# EAGLE library part CHERRY-MX-LED (library Jordi)
Cherry MX series keyswitch with LED. Also compatible with Alps/Matias switches.
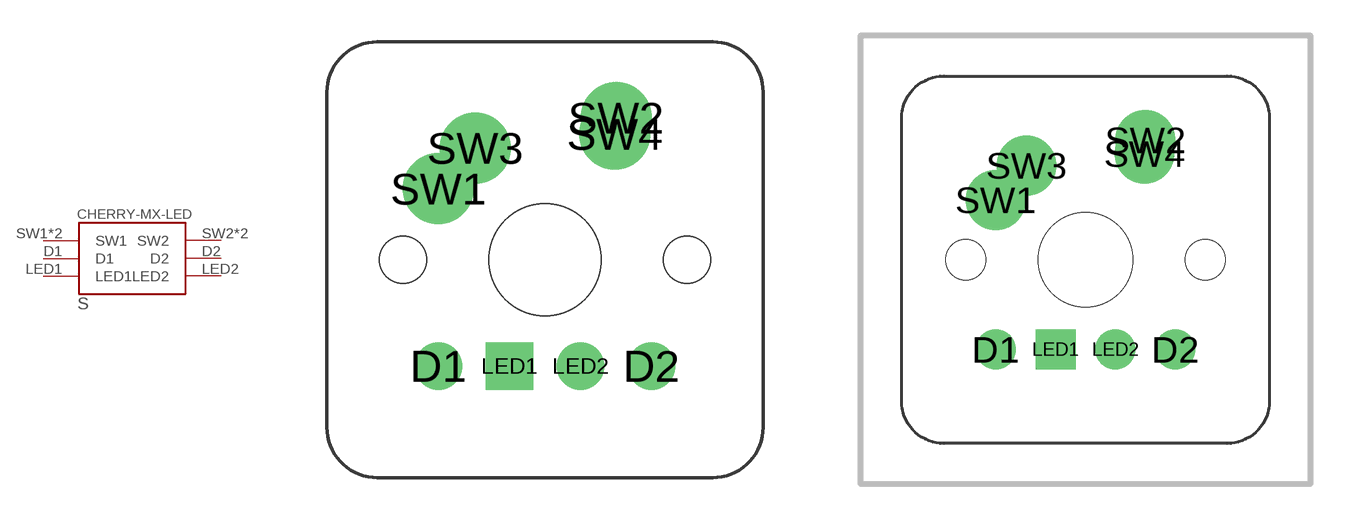
[diagram p48: symbol with the pads of CHERRY-MX-LED; footprints CHERRY-MX-LED, CHERRY-MX-LED-1X1]

Designator prefix S

## CHERRY-MX-LEDBASE  [CHERRY-MX-LED]
D1  D1
D2  D2
LED1  LED1
LED2  LED2
SW1  SW1
SW2  SW2
SW3  SW1
SW4  SW2

## CHERRY-MX-LED1X1  [CHERRY-MX-LED-1X1]
Pads as for CHERRY-MX-LED

## CHERRY-MX-LED1X1.25  [CHERRY-MX-LED-1X1.25]
Pads as for CHERRY-MX-LED

## CHERRY-MX-LED1X1.5  [CHERRY-MX-LED-1X1.5]
Pads as for CHERRY-MX-LED

## CHERRY-MX-LED1X1.75  [CHERRY-MX-LED-1X1.75]
Pads as for CHERRY-MX-LED

## CHERRY-MX-LED1X2  [CHERRY-MX-LED-1X2]
Pads as for CHERRY-MX-LED

## CHERRY-MX-LED1X2.25  [CHERRY-MX-LED-1X2.25]
Pads as for CHERRY-MX-LED

## CHERRY-MX-LED1X2.75  [CHERRY-MX-LED-1X2.75]
Pads as for CHERRY-MX-LED

## CHERRY-MX-LED1X3  [CHERRY-MX-LED-1X3]
Pads as for CHERRY-MX-LED

## Footprint CHERRY-MX-LED (pad centres in mm)
Cherry MX series keyswitch footprint with additional holes for an LED
drill 1 pad 1.7: D1 -3.81,-3.81; D2 3.81,-3.81; LED2 1.27,-3.81
drill 1 pad 1.7 square: LED1 -1.27,-3.81
drill 1.5 pad 2.54: SW1 -3.81,2.54; SW2 2.54,5.08; SW3 -2.5,4; SW4 2.5,4.5
hole 4 at 0,0
hole 1.7 at -5.08,0
hole 1.7 at 5.08,0

## Footprint CHERRY-MX-LED-1X1 (pad centres in mm)
drill 1 pad 1.7: D1 -3.81,-3.81; D2 3.81,-3.81; LED2 1.27,-3.81
drill 1 pad 1.7 square: LED1 -1.27,-3.81
drill 1.5 pad 2.54: SW1 -3.81,2.54; SW2 2.54,5.08; SW3 -2.5,4; SW4 2.5,4.5
hole 4 at 0,0
hole 1.7 at -5.08,0
hole 1.7 at 5.08,0

## Footprint CHERRY-MX-LED-1X1.25 (pad centres in mm)
drill 1 pad 1.7: D1 -3.81,-3.81; D2 3.81,-3.81; LED2 1.27,-3.81
drill 1 pad 1.7 square: LED1 -1.27,-3.81
drill 1.5 pad 2.54: SW1 -3.81,2.54; SW2 2.54,5.08; SW3 -2.5,4; SW4 2.5,4.5
hole 4 at 0,0
hole 1.7 at -5.08,0
hole 1.7 at 5.08,0

## Footprint CHERRY-MX-LED-1X1.5 (pad centres in mm)
drill 1 pad 1.7: D1 -3.81,-3.81; D2 3.81,-3.81; LED2 1.27,-3.81
drill 1 pad 1.7 square: LED1 -1.27,-3.81
drill 1.5 pad 2.54: SW1 -3.81,2.54; SW2 2.54,5.08; SW3 -2.5,4; SW4 2.5,4.5
hole 4 at 0,0
hole 1.7 at -5.08,0
hole 1.7 at 5.08,0

## Footprint CHERRY-MX-LED-1X1.75 (pad centres in mm)
drill 1 pad 1.7: D1 -3.81,-3.81; D2 3.81,-3.81; LED2 1.27,-3.81
drill 1 pad 1.7 square: LED1 -1.27,-3.81
drill 1.5 pad 2.54: SW1 -3.81,2.54; SW2 2.54,5.08; SW3 -2.5,4; SW4 2.5,4.5
hole 4 at 0,0
hole 1.7 at -5.08,0
hole 1.7 at 5.08,0

## Footprint CHERRY-MX-LED-1X2 (pad centres in mm)
drill 1 pad 1.7: D1 -3.81,-3.81; D2 3.81,-3.81; LED2 1.27,-3.81
drill 1 pad 1.7 square: LED1 -1.27,-3.81
drill 1.5 pad 2.54: SW1 -3.81,2.54; SW2 2.54,5.08; SW3 -2.5,4; SW4 2.5,4.5
hole 4 at 0,0
hole 1.7 at -5.08,0
hole 1.7 at 5.08,0
hole 3.05 at 11.9,7
hole 3.05 at -11.9,7
hole 4 at -11.9,-8.24
hole 4 at 11.9,-8.24

## Footprint CHERRY-MX-LED-1X2.25 (pad centres in mm)
drill 1 pad 1.7: D1 -3.81,-3.81; D2 3.81,-3.81; LED2 1.27,-3.81
drill 1 pad 1.7 square: LED1 -1.27,-3.81
drill 1.5 pad 2.54: SW1 -3.81,2.54; SW2 2.54,5.08; SW3 -2.5,4; SW4 2.5,4.5
hole 4 at 0,0
hole 1.7 at -5.08,0
hole 1.7 at 5.08,0
hole 3.05 at 11.9,7
hole 3.05 at -11.9,7
hole 4 at -11.9,-8.24
hole 4 at 11.9,-8.24

## Footprint CHERRY-MX-LED-1X2.75 (pad centres in mm)
drill 1 pad 1.7: D1 -3.81,-3.81; D2 3.81,-3.81; LED2 1.27,-3.81
drill 1 pad 1.7 square: LED1 -1.27,-3.81
drill 1.5 pad 2.54: SW1 -3.81,2.54; SW2 2.54,5.08; SW3 -2.5,4; SW4 2.5,4.5
hole 4 at 0,0
hole 1.7 at -5.08,0
hole 1.7 at 5.08,0
hole 3.05 at 11.9,7
hole 3.05 at -11.9,7
hole 4 at -11.9,-8.24
hole 4 at 11.9,-8.24

## Footprint CHERRY-MX-LED-1X3 (pad centres in mm)
drill 1 pad 1.7: D1 -3.81,-3.81; D2 3.81,-3.81; LED2 1.27,-3.81
drill 1 pad 1.7 square: LED1 -1.27,-3.81
drill 1.5 pad 2.54: SW1 -3.81,2.54; SW2 2.54,5.08; SW3 -2.5,4; SW4 2.5,4.5
hole 4 at 0,0
hole 1.7 at -5.08,0
hole 1.7 at 5.08,0
hole 3.05 at 19.05,7
hole 3.05 at -19.05,7
hole 4 at -19.05,-8.24
hole 4 at 19.05,-8.24